# Altium footprint library XHCLB_22.11.30.PcbLib: 90 footprints (part 4 of 6)
Each footprint in its own frame and in the unit in brackets; x right, y up, seen from the top. Pads: shape width x height; smd on the part's side, far side on the other; paste and mask are expansions set on the pad; w line width, h text height; cw(c..) or ccw(c..) is an arc to the next point about the centre after c.
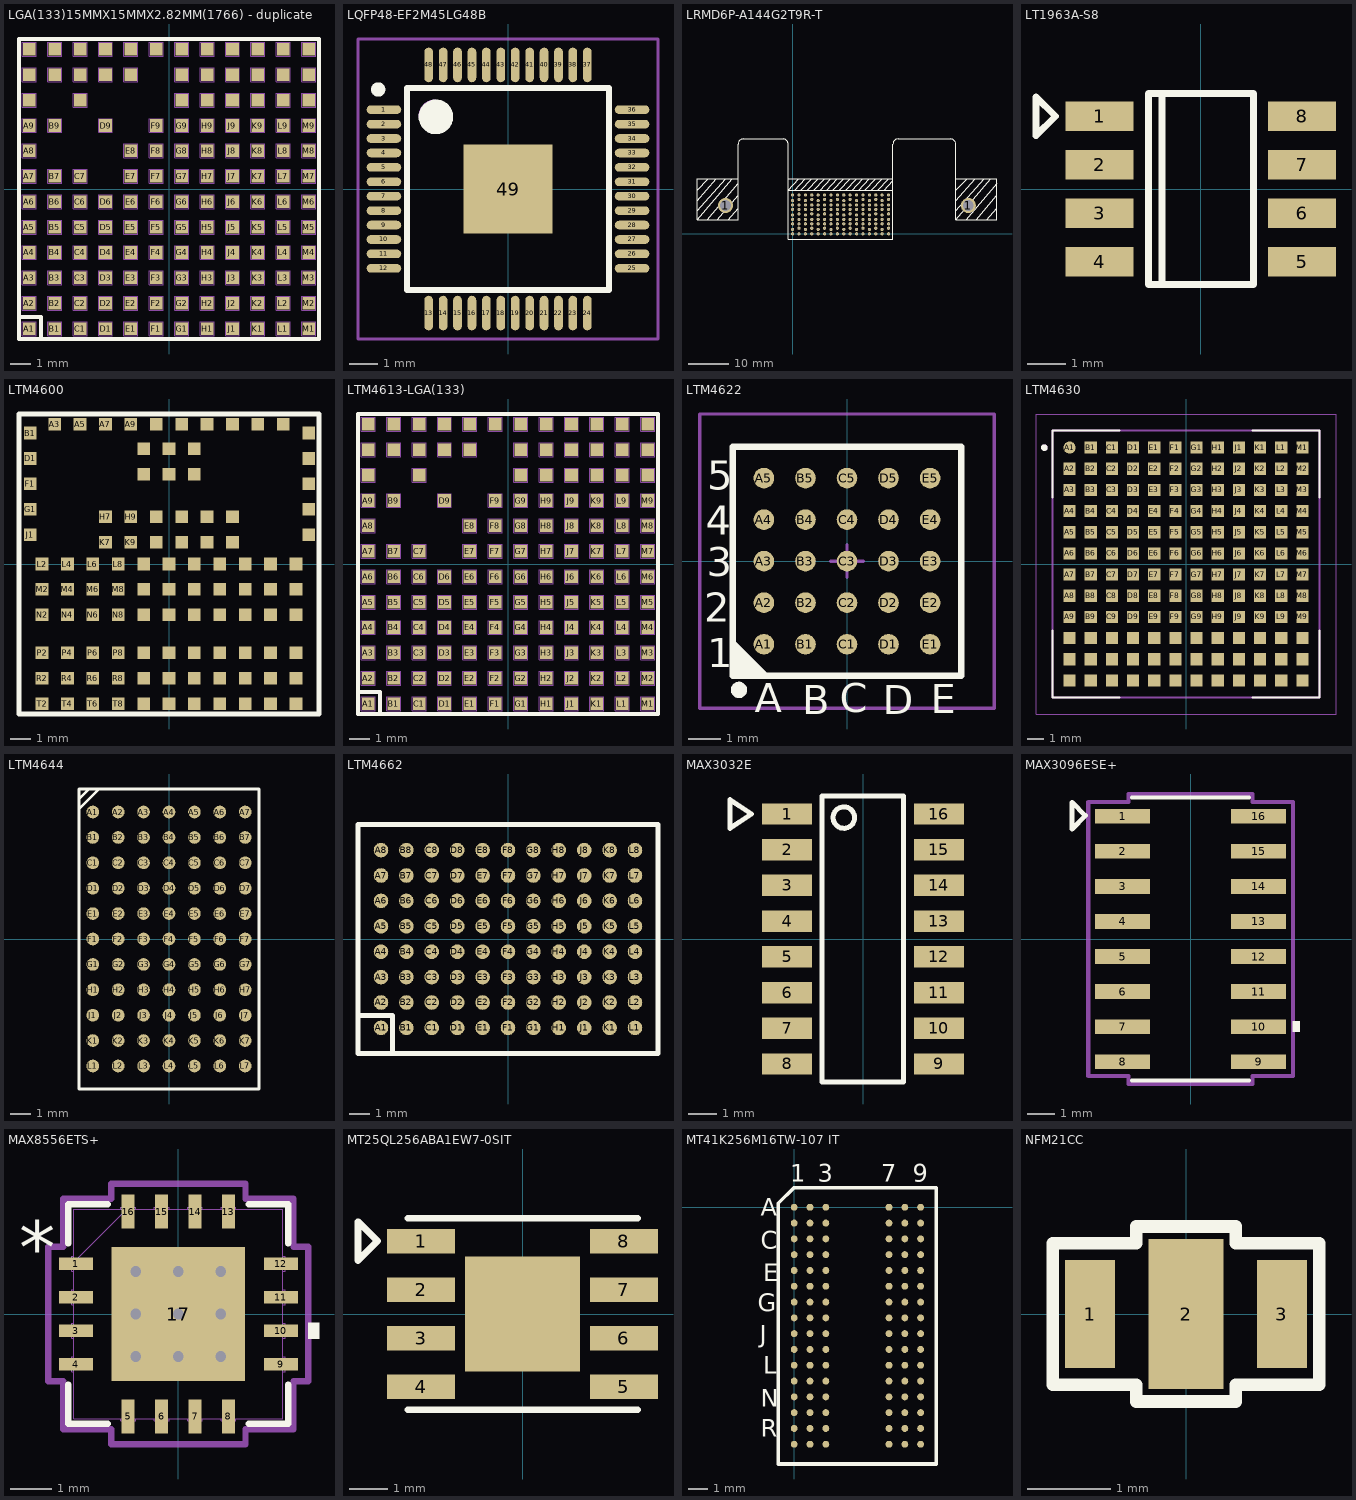
[diagram p3: the footprints below, top view; thin cyan lines are the x and y axes]

## LGA(133)15MMX15MMX2.82MM(1766) - duplicate [mm]
pads (133):
  rect 0.63x0.63 smd: A1(-6.985,-6.985) A2(-6.985,-5.715) A3(-6.985,-4.445) A4(-6.985,-3.175) A5(-6.985,-1.905) A6(-6.985,-0.635) A7(-6.985,0.635) A8(-6.985,1.905) A9(-6.985,3.175) A10(-6.985,4.445) A11(-6.985,5.715) A12(-6.985,6.985) B1(-5.715,-6.985) B2(-5.715,-5.715) B3(-5.715,-4.445) B4(-5.715,-3.175) B5(-5.715,-1.905) B6(-5.715,-0.635) B7(-5.715,0.635) B9(-5.715,3.175) B11(-5.715,5.715) B12(-5.715,6.985) C1(-4.445,-6.985) C2(-4.445,-5.715) C3(-4.445,-4.445) C4(-4.445,-3.175) C5(-4.445,-1.905) C6(-4.445,-0.635) C7(-4.445,0.635) C10(-4.445,4.445) C11(-4.445,5.715) C12(-4.445,6.985) D1(-3.175,-6.985) D2(-3.175,-5.715) D3(-3.175,-4.445) D4(-3.175,-3.175) D5(-3.175,-1.905) D6(-3.175,-0.635) D9(-3.175,3.175) D11(-3.175,5.715) D12(-3.175,6.985) E1(-1.905,-6.985) E2(-1.905,-5.715) E3(-1.905,-4.445) E4(-1.905,-3.175) E5(-1.905,-1.905) E6(-1.905,-0.635) E7(-1.905,0.635) E8(-1.905,1.905) E11(-1.905,5.715) E12(-1.905,6.985) F1(-0.635,-6.985) F2(-0.635,-5.715) F3(-0.635,-4.445) F4(-0.635,-3.175) F5(-0.635,-1.905) F6(-0.635,-0.635) F7(-0.635,0.635) F8(-0.635,1.905) F9(-0.635,3.175) F12(-0.635,6.985) G1(0.635,-6.985) G2(0.635,-5.715) G3(0.635,-4.445) G4(0.635,-3.175) G5(0.635,-1.905) G6(0.635,-0.635) G7(0.635,0.635) G8(0.635,1.905) G9(0.635,3.175) G10(0.635,4.445) G11(0.635,5.715) G12(0.635,6.985) H1(1.905,-6.985) H2(1.905,-5.715) H3(1.905,-4.445) H4(1.905,-3.175) H5(1.905,-1.905) H6(1.905,-0.635) H7(1.905,0.635) H8(1.905,1.905) H9(1.905,3.175) H10(1.905,4.445) H11(1.905,5.715) H12(1.905,6.985) J1(3.175,-6.985) J2(3.175,-5.715) J3(3.175,-4.445) J4(3.175,-3.175) J5(3.175,-1.905) J6(3.175,-0.635) J7(3.175,0.635) J8(3.175,1.905) J9(3.175,3.175) J10(3.175,4.445) J11(3.175,5.715) J12(3.175,6.985) K1(4.445,-6.985) K2(4.445,-5.715) K3(4.445,-4.445) K4(4.445,-3.175) K5(4.445,-1.905) K6(4.445,-0.635) K7(4.445,0.635) K8(4.445,1.905) K9(4.445,3.175) K10(4.445,4.445) K11(4.445,5.715) K12(4.445,6.985) L1(5.715,-6.985) L2(5.715,-5.715) L3(5.715,-4.445) L4(5.715,-3.175) L5(5.715,-1.905) L6(5.715,-0.635) L7(5.715,0.635) L8(5.715,1.905) L9(5.715,3.175) L10(5.715,4.445) L11(5.715,5.715) L12(5.715,6.985) M1(6.985,-6.985) M2(6.985,-5.715) M3(6.985,-4.445) M4(6.985,-3.175) M5(6.985,-1.905) M6(6.985,-0.635) M7(6.985,0.635) M8(6.985,1.905) M9(6.985,3.175) M10(6.985,4.445) M11(6.985,5.715) M12(6.985,6.985)
Top Overlay:
  lines w0.2: -7.5,-7.5 7.5,-7.5 7.5,7.5 -7.5,7.5 -7.5,-7.5 ; -7.5,-7.5 -7.5,-6.4 -6.4,-6.4 -6.4,-7.5 -7.5,-7.5
Mechanical 1:
  drawing of 532 lines, arcs and shapes, not listed
Mechanical 16:
  drawing of 532 lines, arcs and shapes, not listed

## LQFP48-EF2M45LG48B [mm] "LQFP, 48-Leads, Body 9.2x9.2mm (max), Pitch 0.50mm, IPC Medium Density"
height 1.6
pads (49):
  oval 1.2x0.3 smd: 1(-4.3,2.75) 2(-4.3,2.25) 3(-4.3,1.75) 4(-4.3,1.25) 5(-4.3,0.75) 6(-4.3,0.25) 7(-4.3,-0.25) 8(-4.3,-0.75) 9(-4.3,-1.25) 10(-4.3,-1.75) 11(-4.3,-2.25) 12(-4.3,-2.75) 25(4.3,-2.75) 26(4.3,-2.25) 27(4.3,-1.75) 28(4.3,-1.25) 29(4.3,-0.75) 30(4.3,-0.25) 31(4.3,0.25) 32(4.3,0.75) 33(4.3,1.25) 34(4.3,1.75) 35(4.3,2.25) 36(4.3,2.75)
  oval 0.3x1.2 smd: 13(-2.75,-4.3) 14(-2.25,-4.3) 15(-1.75,-4.3) 16(-1.25,-4.3) 17(-0.75,-4.3) 18(-0.25,-4.3) 19(0.25,-4.3) 20(0.75,-4.3) 21(1.25,-4.3) 22(1.75,-4.3) 23(2.25,-4.3) 24(2.75,-4.3) 37(2.75,4.3) 38(2.25,4.3) 39(1.75,4.3) 40(1.25,4.3) 41(0.75,4.3) 42(0.25,4.3) 43(-0.25,4.3) 44(-0.75,4.3) 45(-1.25,4.3) 46(-1.75,4.3) 47(-2.25,4.3) 48(-2.75,4.3)
  rect 3.1x3.1 smd: 49(0,0)
Top Overlay:
  circle w0.6: c-2.5,2.5 r0.3
  circle w0.25: c-4.5,3.45 r0.125
  lines w0.2: -3.5,-3.5 3.5,-3.5 3.5,3.5 -3.5,3.5 -3.5,-3.5
Mechanical 13:
  circle w0.1: c-2.55,2.55 r0.5
  lines w0.1: -3.5,-3.5 3.5,-3.5 3.5,3.5 -3.5,3.5 -3.5,-3.5
Mechanical 15:
  lines w0.1: -0.5,0 0.5,0 ; 0,-0.5 0,0.5 ; -5.2,-5.2 5.2,-5.2 5.2,5.2 -5.2,5.2 -5.2,-5.2
3D body: height 1.6, standoff 0.05, extent -3.5,-3.5 3.5,3.5

## LRMD6P-A144G2T9R-T [mm]
pads (146):
  round 3.8 hole 2.7: 1(-16.75,7.08) 1(43.95,7.08)
  round 0.8 hole 0.36: A8(0,0) A9(1.6,0) A10(3.2,0) A11(4.8,0) A12(6.4,0) A13(8,0) A14(9.6,0) A15(11.2,0) A16(12.8,0) A17(14.4,0) A18(16,0) A19(17.6,0) A20(19.2,0) A21(20.8,0) A22(22.4,0) A23(24,0) B8(0,1.1) B9(1.6,1.4) B10(3.2,1.1) B11(4.8,1.4) B12(6.4,1.1) B13(8,1.4) B14(9.6,1.1) B15(11.2,1.4) B16(12.8,1.1) B17(14.4,1.4) B18(16,1.1) B19(17.6,1.4) B20(19.2,1.1) B21(20.8,1.4) B22(22.4,1.1) B23(24,1.4) C8(0,2.5) C9(1.6,2.5) C10(3.2,2.5) C11(4.8,2.5) C12(6.4,2.5) C13(8,2.5) C14(9.6,2.5) C15(11.2,2.5) C16(12.8,2.5) C17(14.4,2.5) C18(16,2.5) C19(17.6,2.5) C20(19.2,2.5) C21(20.8,2.5) C22(22.4,2.5) C23(24,2.5) D8(0,3.6) D9(1.6,3.6) D10(3.2,3.6) D11(4.8,3.6) D12(6.4,3.6) D13(8,3.6) D14(9.6,3.6) D15(11.2,3.6) D16(12.8,3.6) D17(14.4,3.6) D18(16,3.6) D19(17.6,3.6) D20(19.2,3.6) D21(20.8,3.6) D22(22.4,3.6) D23(24,3.6) E8(0,4.7) E9(1.6,5) E10(3.2,4.7) E11(4.8,5) E12(6.4,4.7) E13(8,5) E14(9.6,4.7) E15(11.2,5) E16(12.8,4.7) E17(14.4,5) E18(16,4.7) E19(17.6,5) E20(19.2,4.7) E21(20.8,5) E22(22.4,4.7) E23(24,5) F8(0,6.1) F9(1.6,6.1) F10(3.2,6.1) F11(4.8,6.1) F12(6.4,6.1) F13(8,6.1) F14(9.6,6.1) F15(11.2,6.1) F16(12.8,6.1) F17(14.4,6.1) F18(16,6.1) F19(17.6,6.1) F20(19.2,6.1) F21(20.8,6.1) F22(22.4,6.1) F23(24,6.1) G8(0,7.2) G9(1.6,7.2) G10(3.2,7.2) G11(4.8,7.2) G12(6.4,7.2) G13(8,7.2) G14(9.6,7.2) G15(11.2,7.2) G16(12.8,7.2) G17(14.4,7.2) G18(16,7.2) G19(17.6,7.2) G20(19.2,7.2) G21(20.8,7.2) G22(22.4,7.2) G23(24,7.2) H8(0,8.3) H9(1.6,8.6) H10(3.2,8.3) H11(4.8,8.6) H12(6.4,8.3) H13(8,8.6) H14(9.6,8.3) H15(11.2,8.6) H16(12.8,8.3) H17(14.4,8.6) H18(16,8.3) H19(17.6,8.6) H20(19.2,8.3) H21(20.8,8.6) H22(22.4,8.3) H23(24,8.6) I8(0,9.7) I9(1.6,9.7) I10(3.2,9.7) I11(4.8,9.7) I12(6.4,9.7) I13(8,9.7) I14(9.6,9.7) I15(11.2,9.7) I16(12.8,9.7) I17(14.4,9.7) I18(16,9.7) I19(17.6,9.7) I20(19.2,9.7) I21(20.8,9.7) I22(22.4,9.7) I23(24,9.7)
Top Overlay:
  lines w0.254: -23.9,5.81 -16.75,13.8 ; -23.9,8.3 -19.042,13.811 ; -23.9,10.89 -21.074,13.8 ; -21.328,3.58 -13.581,12.668 ; -18.788,3.58 -13.6,9.7 ; -16.121,3.58 -13.6,6.445 ; -15.105,13.8 -23.9,3.58 ; -13.6,13.8 -23.9,13.8 -23.9,7.08 -23.9,3.58 ; -1.1,13.8 25.1,13.8 ; 0.5,10.89 3.2,13.8 ; 1.6,13.8 -1.1,10.89 25.1,10.89 ; 2.1,10.89 4.8,13.8 ; 3.7,10.89 6.4,13.8 ; 5.3,10.89 8,13.8 ; 6.9,10.89 9.6,13.8 ; 8.5,10.89 11.2,13.8 ; 10.1,10.89 12.8,13.8 ; 11.7,10.89 14.4,13.8 ; 13.3,10.89 16,13.8 ; 14.9,10.89 17.6,13.8 ; 16.5,10.89 19.2,13.8 ; 18.1,10.89 20.8,13.8 ; 19.7,10.89 22.4,13.8 ; 21.3,10.89 24,13.8 ; 22.9,10.89 25.058,13.215 ; 40.8,5.81 47.95,13.8 ; 40.8,8.3 45.658,13.811 ; 40.8,10.89 43.626,13.8 ; 40.8,13.8 51.1,13.8 51.1,7.08 51.1,3.58 43.95,3.58 40.8,3.58 ; 43.372,3.58 51.119,12.668 ; 45.912,3.58 51.1,9.7 ; 48.579,3.58 51.1,6.445 ; 49.595,13.8 40.8,3.58 ; -23.9,3.58 -16.75,3.58 -13.6,3.58 -13.6,7.08 -13.6,21.558 -13.6,22.447 cw(c-12.33,22.447) -12.33,23.717 -2.37,23.717 cw(c-2.37,22.447) -1.1,22.447 -1.1,0 -1.1,-1.3 25.1,-1.3 25.1,0 25.1,21.558 25.1,22.449 cw(c26.37,22.449) 26.37,23.719 39.53,23.719 cw(c39.53,22.449) 40.8,22.449 40.8,21.558 40.8,7.08 40.8,3.58
Drill Guide:
  lines w0.254: -16.75,13.8 -16.75,7.08 ; -13.6,7.08 -16.75,7.08 ; -1.1,0 0,0 0,-1.3 ; 24,-1.3 24,0 25.1,0 ; 40.8,7.08 43.95,7.08 ; 43.95,3.58 43.95,7.08 ; 43.95,13.8 43.95,7.08 ; -23.9,7.08 -16.75,7.08 ; -23.9,7.08 -23.9,13.8 51.1,13.8 51.1,7.08 ; -23.9,7.08 -16.75,7.08 ; 43.95,7.08 51.1,7.08 ; 43.95,7.08 51.1,7.08

## LT1963A-S8 [mil]
pads (8):
  rect 70x30 smd: 1(-104.33,75) 2(-104.33,25) 3(-104.33,-25) 4(-104.33,-75) 5(104.33,-75) 6(104.33,-25) 7(104.33,25) 8(104.33,75)
Top Overlay:
  lines w7: -40,-98.43 -40,98.43 ; -170,55 -170,95 -150,75 -170,55 ; -54.02,-98.43 54.2,-98.43 54.2,98.43 -54.02,98.43 -54.02,-98.43

## LTM4600 [mm] "High Effciency DC/DC μModule"
height 3
pads (104):
  rect 0.635x0.635 smd: A3(-5.716,6.989) A5(-4.446,6.989) A7(-3.176,6.989) A9(-1.906,6.989) A11(-0.636,6.989) A13(0.634,6.989) A15(1.904,6.989) A17(3.174,6.989) A19(4.444,6.989) A21(5.715,6.989) B23(6.987,6.548) C10(-1.27,5.765) C12(0,5.765) C14(1.27,5.765) D1(-6.942,5.278) D23(6.987,5.278) E10(-1.27,4.495) E12(0,4.495) E14(1.27,4.495) F1(-6.942,4.008) F23(6.987,4.008) G1(-6.942,2.738) G23(6.987,2.738) H7(-3.176,2.36) H9(-1.906,2.36) H11(-0.636,2.36) H13(0.634,2.36) H15(1.904,2.36) H17(3.174,2.36) J1(-6.942,1.468) J23(6.987,1.468) K7(-3.176,1.09) K9(-1.906,1.09) K11(-0.636,1.09) K13(0.634,1.09) K15(1.904,1.09) K17(3.174,1.09) L2(-6.35,0) L4(-5.08,0) L6(-3.81,0) L8(-2.54,0) L10(-1.27,0) L12(0,0) L14(1.27,0) L16(2.54,0) L18(3.81,0) L20(5.08,0) L22(6.35,0) M2(-6.35,-1.27) M4(-5.08,-1.27) M6(-3.81,-1.27) M8(-2.54,-1.27) M10(-1.27,-1.27) M12(0,-1.27) M14(1.27,-1.27) M16(2.54,-1.27) M18(3.81,-1.27) M20(5.08,-1.27) M22(6.35,-1.27) N2(-6.35,-2.54) N4(-5.08,-2.54) N6(-3.81,-2.54) N8(-2.54,-2.54) N10(-1.27,-2.54) N12(0,-2.54) N14(1.27,-2.54) N16(2.54,-2.54) N18(3.81,-2.54) N20(5.08,-2.54) N22(6.35,-2.54) P2(-6.35,-4.445) P4(-5.08,-4.445) P6(-3.81,-4.445) P8(-2.54,-4.445) P10(-1.27,-4.445) P12(0,-4.445) P14(1.27,-4.445) P16(2.54,-4.445) P18(3.81,-4.445) P20(5.08,-4.445) P22(6.35,-4.445) R2(-6.35,-5.715) R4(-5.08,-5.715) R6(-3.81,-5.715) R8(-2.54,-5.715) R10(-1.27,-5.715) R12(0,-5.715) R14(1.27,-5.715) R16(2.54,-5.715) R18(3.81,-5.715) R20(5.08,-5.715) R22(6.35,-5.715) T2(-6.35,-6.985) T4(-5.08,-6.985) T6(-3.81,-6.985) T8(-2.54,-6.985) T10(-1.27,-6.985) T12(0,-6.985) T14(1.27,-6.985) T16(2.54,-6.985) T18(3.81,-6.985) T20(5.08,-6.985) T22(6.35,-6.985)
  rect 0.635x0.635 smd paste+0: B1(-6.942,6.548)
Top Overlay:
  lines w0.254: -7.5,-7.5 -7.5,7.5 7.5,7.5 7.5,-7.5 -7.5,-7.5
  text "." at -7.899,6.528 h1.52

## LTM4613-LGA(133) [mm]
pads (133):
  rect 0.63x0.63 smd: A1(-6.985,-6.985) A2(-6.985,-5.715) A3(-6.985,-4.445) A4(-6.985,-3.175) A5(-6.985,-1.905) A6(-6.985,-0.635) A7(-6.985,0.635) A8(-6.985,1.905) A9(-6.985,3.175) A10(-6.985,4.445) A11(-6.985,5.715) A12(-6.985,6.985) B1(-5.715,-6.985) B2(-5.715,-5.715) B3(-5.715,-4.445) B4(-5.715,-3.175) B5(-5.715,-1.905) B6(-5.715,-0.635) B7(-5.715,0.635) B9(-5.715,3.175) B11(-5.715,5.715) B12(-5.715,6.985) C1(-4.445,-6.985) C2(-4.445,-5.715) C3(-4.445,-4.445) C4(-4.445,-3.175) C5(-4.445,-1.905) C6(-4.445,-0.635) C7(-4.445,0.635) C10(-4.445,4.445) C11(-4.445,5.715) C12(-4.445,6.985) D1(-3.175,-6.985) D2(-3.175,-5.715) D3(-3.175,-4.445) D4(-3.175,-3.175) D5(-3.175,-1.905) D6(-3.175,-0.635) D9(-3.175,3.175) D11(-3.175,5.715) D12(-3.175,6.985) E1(-1.905,-6.985) E2(-1.905,-5.715) E3(-1.905,-4.445) E4(-1.905,-3.175) E5(-1.905,-1.905) E6(-1.905,-0.635) E7(-1.905,0.635) E8(-1.905,1.905) E11(-1.905,5.715) E12(-1.905,6.985) F1(-0.635,-6.985) F2(-0.635,-5.715) F3(-0.635,-4.445) F4(-0.635,-3.175) F5(-0.635,-1.905) F6(-0.635,-0.635) F7(-0.635,0.635) F8(-0.635,1.905) F9(-0.635,3.175) F12(-0.635,6.985) G1(0.635,-6.985) G2(0.635,-5.715) G3(0.635,-4.445) G4(0.635,-3.175) G5(0.635,-1.905) G6(0.635,-0.635) G7(0.635,0.635) G8(0.635,1.905) G9(0.635,3.175) G10(0.635,4.445) G11(0.635,5.715) G12(0.635,6.985) H1(1.905,-6.985) H2(1.905,-5.715) H3(1.905,-4.445) H4(1.905,-3.175) H5(1.905,-1.905) H6(1.905,-0.635) H7(1.905,0.635) H8(1.905,1.905) H9(1.905,3.175) H10(1.905,4.445) H11(1.905,5.715) H12(1.905,6.985) J1(3.175,-6.985) J2(3.175,-5.715) J3(3.175,-4.445) J4(3.175,-3.175) J5(3.175,-1.905) J6(3.175,-0.635) J7(3.175,0.635) J8(3.175,1.905) J9(3.175,3.175) J10(3.175,4.445) J11(3.175,5.715) J12(3.175,6.985) K1(4.445,-6.985) K2(4.445,-5.715) K3(4.445,-4.445) K4(4.445,-3.175) K5(4.445,-1.905) K6(4.445,-0.635) K7(4.445,0.635) K8(4.445,1.905) K9(4.445,3.175) K10(4.445,4.445) K11(4.445,5.715) K12(4.445,6.985) L1(5.715,-6.985) L2(5.715,-5.715) L3(5.715,-4.445) L4(5.715,-3.175) L5(5.715,-1.905) L6(5.715,-0.635) L7(5.715,0.635) L8(5.715,1.905) L9(5.715,3.175) L10(5.715,4.445) L11(5.715,5.715) L12(5.715,6.985) M1(6.985,-6.985) M2(6.985,-5.715) M3(6.985,-4.445) M4(6.985,-3.175) M5(6.985,-1.905) M6(6.985,-0.635) M7(6.985,0.635) M8(6.985,1.905) M9(6.985,3.175) M10(6.985,4.445) M11(6.985,5.715) M12(6.985,6.985)
Top Overlay:
  lines w0.2: -7.5,-7.5 7.5,-7.5 7.5,7.5 -7.5,7.5 -7.5,-7.5 ; -7.5,-7.5 -7.5,-6.4 -6.4,-6.4 -6.4,-7.5 -7.5,-7.5
Mechanical 1:
  drawing of 532 lines, arcs and shapes, not listed
Mechanical 16:
  drawing of 532 lines, arcs and shapes, not listed

## LTM4622 [mm]
pads (25):
  round 0.63 smd: A1(-2.54,-2.54) A2(-2.54,-1.27) A3(-2.54,0) A4(-2.54,1.27) A5(-2.54,2.54) B1(-1.27,-2.54) B2(-1.27,-1.27) B3(-1.27,0) B4(-1.27,1.27) B5(-1.27,2.54) C1(0,-2.54) C2(0,-1.27) C3(0,0) C4(0,1.27) C5(0,2.54) D1(1.27,-2.54) D2(1.27,-1.27) D3(1.27,0) D4(1.27,1.27) D5(1.27,2.54) E1(2.54,-2.54) E2(2.54,-1.27) E3(2.54,0) E4(2.54,1.27) E5(2.54,2.54)
Top Overlay:
  circle w0.25: c-3.302,-3.937 r0.125
  region: -3.5,-2.5 -2.5,-3.5 -3.5,-3.5
  lines w0.2: -3.5,-2.5 -2.5,-3.5 ; -3.5,-3.5 -3.5,3.5 3.5,3.5 3.5,-3.5 -3.5,-3.5
  text "A" at -2.819,-4.623 h0.89
  text "B" at -1.372,-4.674 h0.89
  text "C" at -0.229,-4.623 h0.89
  text "D" at 1.092,-4.674 h0.89
  text "E" at 2.565,-4.648 h0.89
  text "1" at -4.267,-3.251 h0.89
  text "2" at -4.369,-1.854 h0.89
  text "3" at -4.293,-0.457 h0.89
  text "4" at -4.318,0.813 h0.89
  text "5" at -4.267,2.184 h0.89
Mechanical 13:
  lines w0.1: -3.5,-3.5 -3.5,3.5 3.5,3.5 3.5,-3.5 -3.5,-3.5
Mechanical 15:
  lines w0.1: -0.5,0 0.5,0 ; 0,-0.5 0,0.5 ; -4.5,-4.5 -4.5,4.5 4.5,4.5 4.5,-4.5 -4.5,-4.5
3D body: height 1.55, standoff 0, extent -3.5,-3.5 3.5,3.5

## LTM4630 [mm]
height 4.51
pads (144):
  round 0.73 smd: A1(-6.985,6.985)
  rect 0.73x0.73 smd: A2(-6.985,5.715) A3(-6.985,4.445) A4(-6.985,3.175) A5(-6.985,1.905) A6(-6.985,0.635) A7(-6.985,-0.635) A8(-6.985,-1.905) A9(-6.985,-3.175) A10(-6.985,-4.445) A11(-6.985,-5.715) A12(-6.985,-6.985) B1(-5.715,6.985) B2(-5.715,5.715) B3(-5.715,4.445) B4(-5.715,3.175) B5(-5.715,1.905) B6(-5.715,0.635) B7(-5.715,-0.635) B8(-5.715,-1.905) B9(-5.715,-3.175) B10(-5.715,-4.445) B11(-5.715,-5.715) B12(-5.715,-6.985) C1(-4.445,6.985) C2(-4.445,5.715) C3(-4.445,4.445) C4(-4.445,3.175) C5(-4.445,1.905) C6(-4.445,0.635) C7(-4.445,-0.635) C8(-4.445,-1.905) C9(-4.445,-3.175) C10(-4.445,-4.445) C11(-4.445,-5.715) C12(-4.445,-6.985) D1(-3.175,6.985) D2(-3.175,5.715) D3(-3.175,4.445) D4(-3.175,3.175) D5(-3.175,1.905) D6(-3.175,0.635) D7(-3.175,-0.635) D8(-3.175,-1.905) D9(-3.175,-3.175) D10(-3.175,-4.445) D11(-3.175,-5.715) D12(-3.175,-6.985) E1(-1.905,6.985) E2(-1.905,5.715) E3(-1.905,4.445) E4(-1.905,3.175) E5(-1.905,1.905) E6(-1.905,0.635) E7(-1.905,-0.635) E8(-1.905,-1.905) E9(-1.905,-3.175) E10(-1.905,-4.445) E11(-1.905,-5.715) E12(-1.905,-6.985) F1(-0.635,6.985) F2(-0.635,5.715) F3(-0.635,4.445) F4(-0.635,3.175) F5(-0.635,1.905) F6(-0.635,0.635) F7(-0.635,-0.635) F8(-0.635,-1.905) F9(-0.635,-3.175) F10(-0.635,-4.445) F11(-0.635,-5.715) F12(-0.635,-6.985) G1(0.635,6.985) G2(0.635,5.715) G3(0.635,4.445) G4(0.635,3.175) G5(0.635,1.905) G6(0.635,0.635) G7(0.635,-0.635) G8(0.635,-1.905) G9(0.635,-3.175) G10(0.635,-4.445) G11(0.635,-5.715) G12(0.635,-6.985) H1(1.905,6.985) H2(1.905,5.715) H3(1.905,4.445) H4(1.905,3.175) H5(1.905,1.905) H6(1.905,0.635) H7(1.905,-0.635) H8(1.905,-1.905) H9(1.905,-3.175) H10(1.905,-4.445) H11(1.905,-5.715) H12(1.905,-6.985) J1(3.175,6.985) J2(3.175,5.715) J3(3.175,4.445) J4(3.175,3.175) J5(3.175,1.905) J6(3.175,0.635) J7(3.175,-0.635) J8(3.175,-1.905) J9(3.175,-3.175) J10(3.175,-4.445) J11(3.175,-5.715) J12(3.175,-6.985) K1(4.445,6.985) K2(4.445,5.715) K3(4.445,4.445) K4(4.445,3.175) K5(4.445,1.905) K6(4.445,0.635) K7(4.445,-0.635) K8(4.445,-1.905) K9(4.445,-3.175) K10(4.445,-4.445) K11(4.445,-5.715) K12(4.445,-6.985) L1(5.715,6.985) L2(5.715,5.715) L3(5.715,4.445) L4(5.715,3.175) L5(5.715,1.905) L6(5.715,0.635) L7(5.715,-0.635) L8(5.715,-1.905) L9(5.715,-3.175) L10(5.715,-4.445) L11(5.715,-5.715) L12(5.715,-6.985) M1(6.985,6.985) M2(6.985,5.715) M3(6.985,4.445) M4(6.985,3.175) M5(6.985,1.905) M6(6.985,0.635) M7(6.985,-0.635) M8(6.985,-1.905) M9(6.985,-3.175) M10(6.985,-4.445) M11(6.985,-5.715) M12(6.985,-6.985)
Top Overlay:
  circle w0.2: c-8.5,6.985 r0.1
  lines w0.127: -8,-4 -8,-8 -4,-8 ; -8,4 -8,8 -4,8 ; 4,-8 8,-8 8,-4 ; 4,8 8,8 8,4
Mechanical 13:
  circle w0.2: c-8.5,6.985 r0.1
  lines w0.127: -8,-8 8,-8 8,8 -8,8 -8,-8
Mechanical 15:
  lines w0.05: -9,-9 9,-9 9,9 -9,9 -9,-9

## LTM4644 [mm] "LTM4644"
pads (77):
  round 0.635 smd: A1(-3.81,6.35) A2(-2.54,6.35) A3(-1.27,6.35) A4(0,6.35) A5(1.27,6.35) A6(2.54,6.35) A7(3.81,6.35) B1(-3.81,5.08) B2(-2.54,5.08) B3(-1.27,5.08) B4(0,5.08) B5(1.27,5.08) B6(2.54,5.08) B7(3.81,5.08) C1(-3.81,3.81) C2(-2.54,3.81) C3(-1.27,3.81) C4(0,3.81) C5(1.27,3.81) C6(2.54,3.81) C7(3.81,3.81) D1(-3.81,2.54) D2(-2.54,2.54) D3(-1.27,2.54) D4(0,2.54) D5(1.27,2.54) D6(2.54,2.54) D7(3.81,2.54) E1(-3.81,1.27) E2(-2.54,1.27) E3(-1.27,1.27) E4(0,1.27) E5(1.27,1.27) E6(2.54,1.27) E7(3.81,1.27) F1(-3.81,0) F2(-2.54,0) F3(-1.27,0) F4(0,0) F5(1.27,0) F6(2.54,0) F7(3.81,0) G1(-3.81,-1.27) G2(-2.54,-1.27) G3(-1.27,-1.27) G4(0,-1.27) G5(1.27,-1.27) G6(2.54,-1.27) G7(3.81,-1.27) H1(-3.81,-2.54) H2(-2.54,-2.54) H3(-1.27,-2.54) H4(0,-2.54) H5(1.27,-2.54) H6(2.54,-2.54) H7(3.81,-2.54) J1(-3.81,-3.81) J2(-2.54,-3.81) J3(-1.27,-3.81) J4(0,-3.81) J5(1.27,-3.81) J6(2.54,-3.81) J7(3.81,-3.81) K1(-3.81,-5.08) K2(-2.54,-5.08) K3(-1.27,-5.08) K4(0,-5.08) K5(1.27,-5.08) K6(2.54,-5.08) K7(3.81,-5.08) L1(-3.81,-6.35) L2(-2.54,-6.35) L3(-1.27,-6.35) L4(0,-6.35) L5(1.27,-6.35) L6(2.54,-6.35) L7(3.81,-6.35)
Top Overlay:
  lines w0.127: -4,7.5 -4.5,7 -4.5,6.5 ; -4.5,6.5 -3.5,7.5 -4.5,6.5 ; -4.5,-7.5 -4.5,7.5 4.5,7.5 4.5,-7.5 -4.5,-7.5

## LTM4662 [mm]
pads (88):
  round 0.73 smd: A1(-6.35,-4.445) A2(-6.35,-3.175) A3(-6.35,-1.905) A4(-6.35,-0.635) A5(-6.35,0.635) A6(-6.35,1.905) A7(-6.35,3.175) A8(-6.35,4.445) B1(-5.08,-4.445) B2(-5.08,-3.175) B3(-5.08,-1.905) B4(-5.08,-0.635) B5(-5.08,0.635) B6(-5.08,1.905) B7(-5.08,3.175) B8(-5.08,4.445) C1(-3.81,-4.445) C2(-3.81,-3.175) C3(-3.81,-1.905) C4(-3.81,-0.635) C5(-3.81,0.635) C6(-3.81,1.905) C7(-3.81,3.175) C8(-3.81,4.445) D1(-2.54,-4.445) D2(-2.54,-3.175) D3(-2.54,-1.905) D4(-2.54,-0.635) D5(-2.54,0.635) D6(-2.54,1.905) D7(-2.54,3.175) D8(-2.54,4.445) E1(-1.27,-4.445) E2(-1.27,-3.175) E3(-1.27,-1.905) E4(-1.27,-0.635) E5(-1.27,0.635) E6(-1.27,1.905) E7(-1.27,3.175) E8(-1.27,4.445) F1(0,-4.445) F2(0,-3.175) F3(0,-1.905) F4(0,-0.635) F5(0,0.635) F6(0,1.905) F7(0,3.175) F8(0,4.445) G1(1.27,-4.445) G2(1.27,-3.175) G3(1.27,-1.905) G4(1.27,-0.635) G5(1.27,0.635) G6(1.27,1.905) G7(1.27,3.175) G8(1.27,4.445) H1(2.54,-4.445) H2(2.54,-3.175) H3(2.54,-1.905) H4(2.54,-0.635) H5(2.54,0.635) H6(2.54,1.905) H7(2.54,3.175) H8(2.54,4.445) J1(3.81,-4.445) J2(3.81,-3.175) J3(3.81,-1.905) J4(3.81,-0.635) J5(3.81,0.635) J6(3.81,1.905) J7(3.81,3.175) J8(3.81,4.445) K1(5.08,-4.445) K2(5.08,-3.175) K3(5.08,-1.905) K4(5.08,-0.635) K5(5.08,0.635) K6(5.08,1.905) K7(5.08,3.175) K8(5.08,4.445) L1(6.35,-4.445) L2(6.35,-3.175) L3(6.35,-1.905) L4(6.35,-0.635) L5(6.35,0.635) L6(6.35,1.905) L7(6.35,3.175) L8(6.35,4.445)
Top Overlay:
  lines w0.254: -7.493,-3.835 -5.765,-3.835 -5.765,-5.715 ; -7.5,-5.715 -7.5,5.715 7.5,5.715 7.5,-5.715 -7.5,-5.715

## MAX3032E [mil]
pads (16):
  rect 70x30 smd: 1(-106.3,175) 2(-106.3,125) 3(-106.3,75) 4(-106.3,25) 5(-106.3,-25) 6(-106.3,-75) 7(-106.3,-125) 8(-106.3,-175) 9(106.3,-175) 10(106.3,-125) 11(106.3,-75) 12(106.3,-25) 13(106.3,25) 14(106.3,75) 15(106.3,125) 16(106.3,175)
Top Overlay:
  circle w7: c-26.97,170 r15
  lines w7: -186.3,155 -186.3,195 -156.3,175 -186.3,155 ; -57.3,-200 -57.3,200 56.55,200 56.55,-200 -57.3,-200

## MAX3096ESE+ [mil]
pads (16):
  rect 78x21 smd: 1(-97,175) 2(-97,125) 3(-97,75) 4(-97,25) 5(-97,-25) 6(-97,-75) 7(-97,-125) 8(-97,-175) 9(97,-175) 10(97,-125) 11(97,-75) 12(97,-25) 13(97,25) 14(97,75) 15(97,125) 16(97,175)
Top Overlay:
  region: 146,-117.5 156,-117.5 156,-132.5 146,-132.5
  lines w6: -83.5,-202 83.5,-202 ; -83.5,202 83.5,202
  lines w7: -169,157 -169,195 -150,176 -169,157
Mechanical 15:
  lines w6: -146,-195.5 -146,195.5 -88.5,195.5 -88.5,207 88.5,207 88.5,195.5 146,195.5 146,-195.5 88.5,-195.5 88.5,-207 -88.5,-207 -88.5,-195.5 -146,-195.5

## MAX8556ETS+ [mil]
pads (17):
  rect 32x12 smd paste+0 mask+0: 1(-96.5,47.24) 2(-96.5,15.75) 3(-96.5,-15.75) 4(-96.5,-47.24) 9(96.5,-47.24) 10(96.5,-15.75) 11(96.5,15.75) 12(96.5,47.24)
  rect 12x32 smd paste+0 mask+0: 5(-47.24,-96.5) 6(-15.75,-96.5) 7(15.75,-96.5) 8(47.24,-96.5) 13(47.24,96.5) 14(15.75,96.5) 15(-15.75,96.5) 16(-47.24,96.5)
  rect 126x126 smd paste-62.5 mask+0: 17(0,0)
via 40,0 diameter 18 hole 10
via 40,-40 diameter 18 hole 10
via -40,-40 diameter 18 hole 10
via -40,40 diameter 18 hole 10
via 40,40 diameter 18 hole 10
via -40,0 diameter 18 hole 10
via 0,-40 diameter 18 hole 10
via 0,40 diameter 18 hole 10
via 0,0 diameter 18 hole 10
Top Overlay:
  region: 122.5,-8.25 132.5,-8.25 132.5,-23.25 122.5,-23.25
  lines w6: -103.5,-66.34 -103.5,-103.5 -66.34,-103.5 ; -103.5,66.34 -103.5,103.5 -66.34,103.5 ; 66.34,-103.5 103.5,-103.5 103.5,-66.34 ; 66.34,103.5 103.5,103.5 103.5,66.34
  text "*" at -150,37.99 h50
Top Paste:
  region: -3.94,59.06 -59.06,59.06 -59.06,3.94 -3.94,3.94
  region: -3.94,-3.94 -59.06,-3.94 -59.06,-59.06 -3.94,-59.06
  region: 59.06,59.06 3.94,59.06 3.94,3.94 59.06,3.94
  region: 59.06,-3.94 3.94,-3.94 3.94,-59.06 59.06,-59.06
Mechanical 13:
  lines w1: -98.5,48.5 -48.5,98.5 ; -100.5,-54.24 -100.5,-40.24 -98.5,-40.24 -98.5,-54.24 -100.5,-54.24 ; -100.5,-22.75 -100.5,-8.75 -98.5,-8.75 -98.5,-22.75 -100.5,-22.75 ; -100.5,8.75 -100.5,22.75 -98.5,22.75 -98.5,8.75 -100.5,8.75 ; -100.5,40.24 -100.5,54.24 -98.5,54.24 -98.5,40.24 -100.5,40.24 ; -98.5,-98.5 98.5,-98.5 98.5,98.5 -98.5,98.5 -98.5,-98.5 ; -54.24,-100.5 -54.24,-98.5 -40.24,-98.5 -40.24,-100.5 -54.24,-100.5 ; -54.24,98.5 -40.24,98.5 -40.24,100.5 -54.24,100.5 -54.24,98.5 ; -22.75,-100.5 -22.75,-98.5 -8.75,-98.5 -8.75,-100.5 -22.75,-100.5 ; -22.75,98.5 -8.75,98.5 -8.75,100.5 -22.75,100.5 -22.75,98.5 ; 8.75,-100.5 8.75,-98.5 22.75,-98.5 22.75,-100.5 8.75,-100.5 ; 8.75,98.5 22.75,98.5 22.75,100.5 8.75,100.5 8.75,98.5 ; 40.24,-100.5 40.24,-98.5 54.24,-98.5 54.24,-100.5 40.24,-100.5 ; 40.24,98.5 54.24,98.5 54.24,100.5 40.24,100.5 40.24,98.5 ; 98.5,-54.24 98.5,-40.24 100.5,-40.24 100.5,-54.24 98.5,-54.24 ; 98.5,-22.75 98.5,-8.75 100.5,-8.75 100.5,-22.75 98.5,-22.75 ; 98.5,8.75 98.5,22.75 100.5,22.75 100.5,8.75 98.5,8.75 ; 98.5,40.24 98.5,54.24 100.5,54.24 100.5,40.24 98.5,40.24
  text "*" at -93,37.99 h50
Mechanical 15:
  lines w6: -122.5,-63.24 -108.5,-63.24 -108.5,-108.5 -63.24,-108.5 -63.24,-122.5 63.24,-122.5 63.24,-108.5 108.5,-108.5 108.5,-63.24 122.5,-63.24 122.5,63.24 108.5,63.24 108.5,108.5 63.24,108.5 63.24,122.5 -63.24,122.5 -63.24,108.5 -108.5,108.5 -108.5,63.24 -122.5,63.24 -122.5,-63.24
3D body "21-0140_T1655+3_MXM.step": height 32.09, standoff 0, extent -100.51,-100.51 100.51,100.51

## MT25QL256ABA1EW7-0SIT [mm]
pads (9):
  rect 1.778x0.635 smd: 1(-2.65,1.905) 2(-2.65,0.635) 3(-2.65,-0.635) 4(-2.65,-1.905) 5(2.65,-1.905) 6(2.65,-0.635) 7(2.65,0.635) 8(2.65,1.905)
  rect 3x3 smd: ""(0,0)
Top Overlay:
  lines w0.178: -3,-2.5 3,-2.5 ; -3,2.5 3,2.5 ; -4.301,1.397 -4.301,2.413 -3.793,1.905 -4.301,1.397

## MT41K256M16TW-107 IT [mm]
pads (96):
  round 0.35 smd: A1(0,0) A2(0.8,0) A3(1.6,0) A7(4.8,0) A8(5.6,0) A9(6.4,0) B1(0,-0.8) B2(0.8,-0.8) B3(1.6,-0.8) B7(4.8,-0.8) B8(5.6,-0.8) B9(6.4,-0.8) C1(0,-1.6) C2(0.8,-1.6) C3(1.6,-1.6) C7(4.8,-1.6) C8(5.6,-1.6) C9(6.4,-1.6) D1(0,-2.4) D2(0.8,-2.4) D3(1.6,-2.4) D7(4.8,-2.4) D8(5.6,-2.4) D9(6.4,-2.4) E1(0,-3.2) E2(0.8,-3.2) E3(1.6,-3.2) E7(4.8,-3.2) E8(5.6,-3.2) E9(6.4,-3.2) F1(0,-4) F2(0.8,-4) F3(1.6,-4) F7(4.8,-4) F8(5.6,-4) F9(6.4,-4) G1(0,-4.8) G2(0.8,-4.8) G3(1.6,-4.8) G7(4.8,-4.8) G8(5.6,-4.8) G9(6.4,-4.8) H1(0,-5.6) H2(0.8,-5.6) H3(1.6,-5.6) H7(4.8,-5.6) H8(5.6,-5.6) H9(6.4,-5.6) J1(0,-6.4) J2(0.8,-6.4) J3(1.6,-6.4) J7(4.8,-6.4) J8(5.6,-6.4) J9(6.4,-6.4) K1(0,-7.2) K2(0.8,-7.2) K3(1.6,-7.2) K7(4.8,-7.2) K8(5.6,-7.2) K9(6.4,-7.2) L1(0,-8) L2(0.8,-8) L3(1.6,-8) L7(4.8,-8) L8(5.6,-8) L9(6.4,-8) M1(0,-8.8) M2(0.8,-8.8) M3(1.6,-8.8) M7(4.8,-8.8) M8(5.6,-8.8) M9(6.4,-8.8) N1(0,-9.6) N2(0.8,-9.6) N3(1.6,-9.6) N7(4.8,-9.6) N8(5.6,-9.6) N9(6.4,-9.6) P1(0,-10.4) P2(0.8,-10.4) P3(1.6,-10.4) P7(4.8,-10.4) P8(5.6,-10.4) P9(6.4,-10.4) R1(0,-11.2) R2(0.8,-11.2) R3(1.6,-11.2) R7(4.8,-11.2) R8(5.6,-11.2) R9(6.4,-11.2) T1(0,-12) T2(0.8,-12) T3(1.6,-12) T7(4.8,-12) T8(5.6,-12) T9(6.4,-12)
Top Overlay:
  lines w0.178: -0.8,-13 7.2,-13 7.2,1 0,1 -0.8,0.2 -0.8,-13
  text "1" at -0.204,1.302 h0.89
  text "9" at 6,1.302 h0.89
  text "A" at -1.685,-0.439 h0.89
  text "R" at -1.685,-11.615 h0.89
  text "N" at -1.685,-10.091 h0.89
  text "L" at -1.558,-8.44 h0.89
  text "J" at -1.748,-6.863 h0.89
  text "G" at -1.854,-5.263 h0.89
  text "E" at -1.558,-3.741 h0.89
  text "C" at -1.685,-2.09 h0.89
  text "3" at 1.2,1.302 h0.89
  text "7" at 4.4,1.302 h0.89

## NFM21CC [mm] "NFM21CC"
pads (3):
  rect 0.6x1.3 smd: 1(-1.15,0) 3(1.15,0)
  rect 0.9x1.8 smd: 2(0,0)
Top Overlay:
  lines w0.15: -1.6,-0.85 -0.6,-0.85 -0.6,-1.05 0.6,-1.05 0.6,-0.85 1.6,-0.85 1.6,0.85 0.6,0.85 0.6,1.05 -0.6,1.05 -0.6,0.85 -1.6,0.85 -1.6,-0.85
Mechanical 20:
  text "NFM21PC225B0J3" at -0.5,1.53 h0.25